# EAGLE library part EL34 (library E88CC)
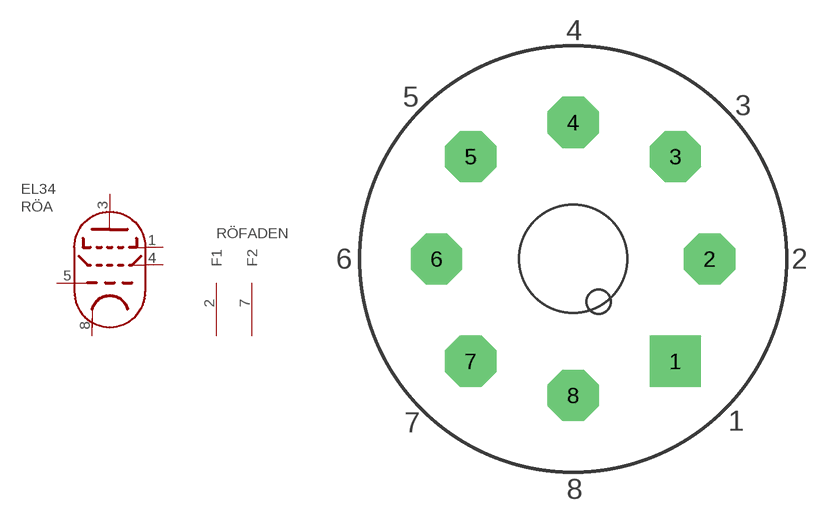
[diagram p1: symbol with the pads of OCTAL; footprint OCTAL]

Designator prefix RÖ; gates A=PENTODE FADEN=FADEN

## EL34  [OCTAL]
1  A:G3  in
2  FADEN:F1  pwr
3  A:A  out
4  A:G2  in
5  A:G1  in
7  FADEN:F2  pwr
8  A:K

## Footprint OCTAL (pad centres in mm)
drill 1.8 pad 3.81 square: 1 7.62,-7.62
drill 1.8 pad 3.81 octagon: 2 10.16,0; 3 7.62,7.62; 4 0,10.16; 5 -7.62,7.62; 6 -10.16,0; 7 -7.62,-7.62; 8 0,-10.16